# Altium schematic symbol library MAX17580.Schlib: 1 symbol
Pins are listed as number, name and electrical type; pins without a type are passive.

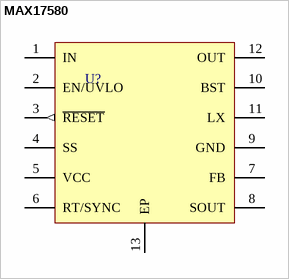
[diagram p0: symbol MAX17580]

## MAX17580
designator U?
4.5V to 60V, 300mA, Inverting Output DC-DC Converters
pins: 1 IN (power), 2 EN/UVLO, 3 ~{RESET} (out), 4 SS, 5 VCC, 6 RT/SYNC, 7 FB, 8 SOUT, 9 GND (power), 10 BST, 11 LX, 12 OUT (power), 13 EP